# EAGLE library part MCP23018-E/SO (library SFM-Project)
MCP23018 Series 5.5 V 3.4 MHz SMT 16-Bit I2C I/O Expander - SOIC-28
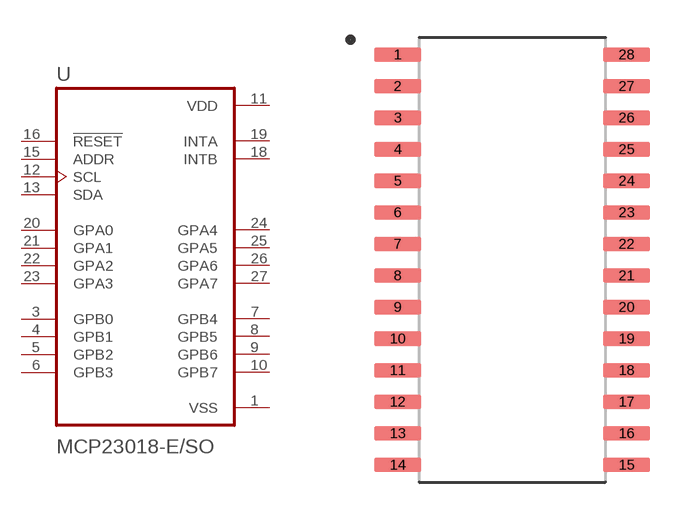
[diagram p8: symbol with the pads of SOIC127P1030X265-28N; footprint SOIC127P1030X265-28N]

Designator prefix U

## MCP23018-E/SO (AVAILABILITY: Unavailable; DESCRIPTION: I/O Expander 16 I²C 3.4MHz 28-SOIC; MF: Microchip; MP: MCP23018-E/SO; PACKAGE: SOIC-28 Microchip; PRICE: None)  [SOIC127P1030X265-28N]
1  VSS  pwr
3  GPB0
4  GPB1
5  GPB2
6  GPB3
7  GPB4
8  GPB5
9  GPB6
10  GPB7
11  VDD  pwr
12  SCL  in
13  SDA
15  ADDR  in
16  !RESET  in
18  INTB  out
19  INTA  out
20  GPA0
21  GPA1
22  GPA2
23  GPA3
24  GPA4
25  GPA5
26  GPA6
27  GPA7

## Footprint SOIC127P1030X265-28N (pad centres in mm)
smd 1.9 x 0.6: 1 -4.605,8.255; 2 -4.605,6.985; 3 -4.605,5.715; 4 -4.605,4.445; 5 -4.605,3.175; 6 -4.605,1.905; 7 -4.605,0.635; 8 -4.605,-0.635; 9 -4.605,-1.905; 10 -4.605,-3.175; 11 -4.605,-4.445; 12 -4.605,-5.715; 13 -4.605,-6.985; 14 -4.605,-8.255; 15 4.605,-8.255; 16 4.605,-6.985; 17 4.605,-5.715; 18 4.605,-4.445; 19 4.605,-3.175; 20 4.605,-1.905; 21 4.605,-0.635; 22 4.605,0.635; 23 4.605,1.905; 24 4.605,3.175; 25 4.605,4.445; 26 4.605,5.715; 27 4.605,6.985; 28 4.605,8.255